# Altium footprint library ATK-UART2ETH2V2.PcbLib: 1 footprints
Each footprint in its own frame and in the unit in brackets; x right, y up, seen from the top. Pads: shape width x height; smd on the part's side, far side on the other; paste and mask are expansions set on the pad; w line width, h text height; cw(c..) or ccw(c..) is an arc to the next point about the centre after c.
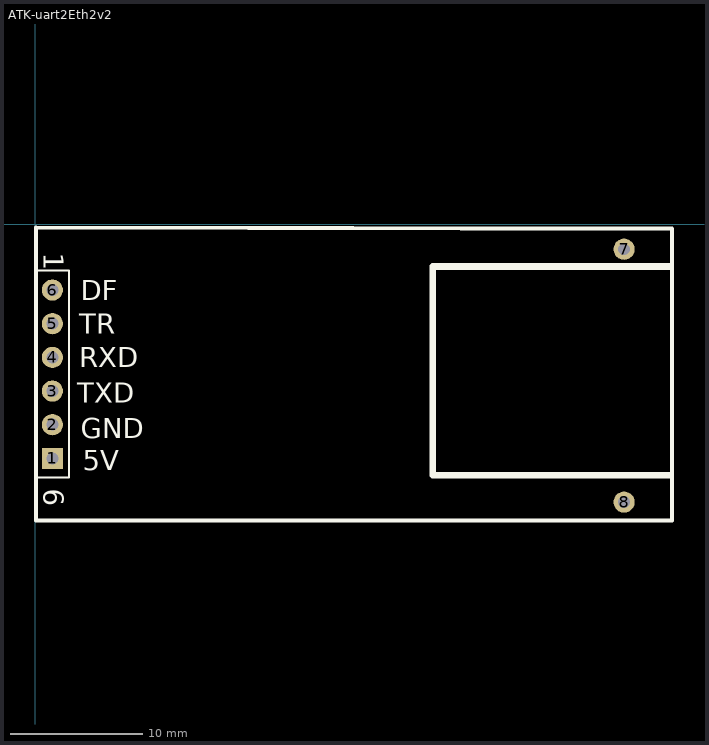
[diagram p0: the footprint, top view; thin cyan lines are the x and y axes]

## ATK-uart2Eth2v2 [mm]
pads (8):
  rect 1.6x1.6 hole 0.9: 1(1.285,-17.654)
  round 1.6 hole 0.9: 2(1.285,-15.114) 3(1.285,-12.574) 4(1.285,-10.034) 5(1.285,-7.494) 6(1.285,-4.954) 7(44.413,-1.877) 8(44.413,-20.952)
Top Overlay:
  lines w0.152: 0.034,-19.088 0.034,-3.478 2.534,-3.478 2.534,-19.088 0.034,-19.088
  lines w0.305: 0.037,-22.333 0.037,-0.246 48.037,-0.334 48.037,-22.333 0.037,-22.333
  lines w0.508: 44.45,-3.175 47.91,-3.175 29.972,-3.175 29.972,-18.923 47.879,-18.923
  text "DF" at 3.429,-5.715 h1.52
  text "TR" at 3.302,-8.255 h1.52
  text "RXD" at 3.302,-10.795 h1.52
  text "TXD" at 3.175,-13.462 h1.52
  text "GND" at 3.429,-16.129 h1.52
  text "5V" at 3.556,-18.542 h1.52
  text "1" at 0.635,-2.159 h1.52
  text "6" at 0.635,-19.939 h1.52